# Altium schematic symbol library DRV8825PWPR.Schlib: 1 symbol
Pins are listed as number, name and electrical type; pins without a type are passive.

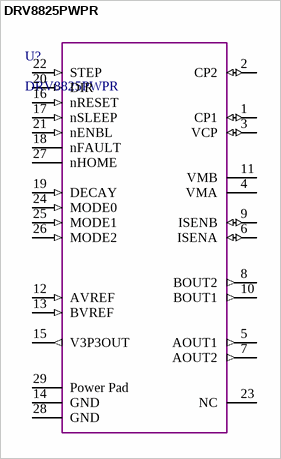
[diagram p0: symbol DRV8825PWPR]

## DRV8825PWPR
designator U?
pins: 1 CP1 (io), 2 CP2 (io), 3 VCP (io), 4 VMA (power), 5 AOUT1 (out), 6 ISENA (io), 7 AOUT2 (out), 8 BOUT2 (out), 9 ISENB (io), 10 BOUT1 (out), 11 VMB (power), 12 AVREF (in), 13 BVREF (in), 14 GND (power), 15 V3P3OUT (out), 16 nRESET (in), 17 nSLEEP (in), 18 nFAULT (oc), 19 DECAY (in), 20 DIR (in), 21 nENBL (in), 22 STEP (in), 23 NC (hiz), 24 MODE0 (in), 25 MODE1 (in), 26 MODE2 (in), 27 nHOME (oc), 28 GND (power), 29 Power Pad